# Altium footprint library Bourns Slide Potentiometer.PcbLib: 1 footprints
Each footprint in its own frame and in the unit in brackets; x right, y up, seen from the top. Pads: shape width x height; smd on the part's side, far side on the other; paste and mask are expansions set on the pad; w line width, h text height; cw(c..) or ccw(c..) is an arc to the next point about the centre after c.
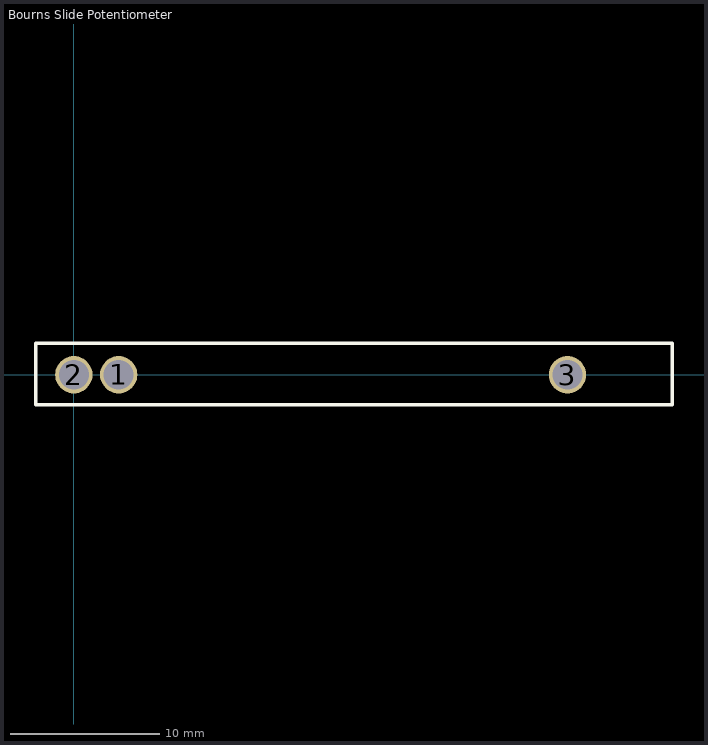
[diagram p0: the footprint, top view; thin cyan lines are the x and y axes]

## Bourns Slide Potentiometer [mm] "PDV20-21P-504B"
pads (3):
  round 2.5 hole 2: 1(3,0) 2(0,0) 3(33,0)
Top Overlay:
  lines w0.254: -2.54,-2 40,-2 40,2.1 -2.54,2.1 -2.54,-2